# EAGLE library part ADS1260BIRHBR (library ads1260)
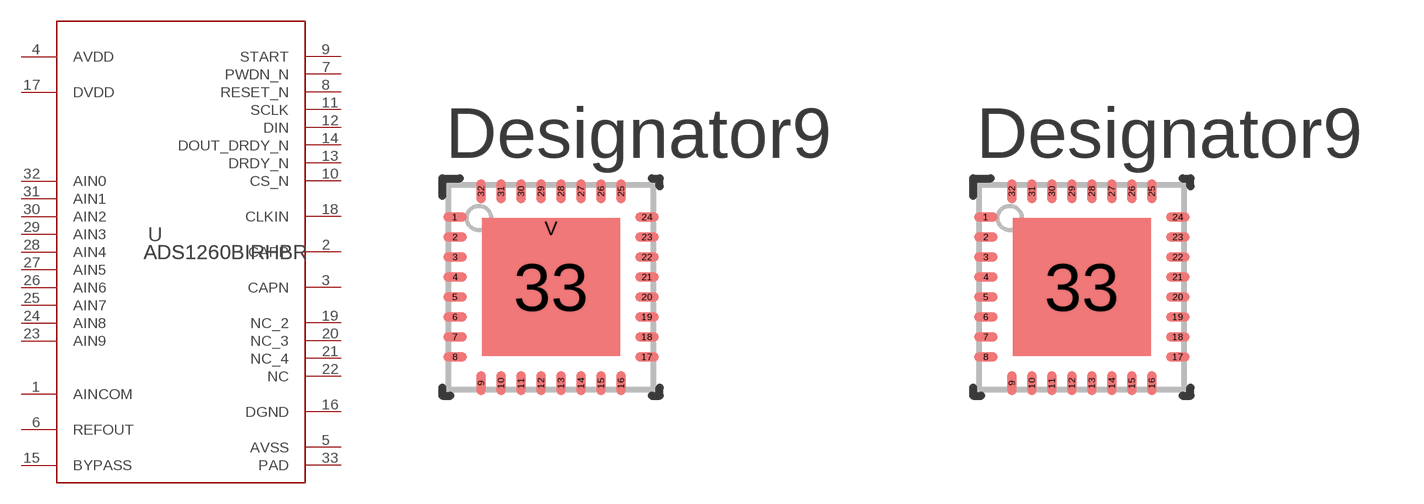
[diagram p0: symbol with the pads of RHB0032E; footprints RHB0032E, RHB0032E_NV]

Designator prefix U

## ADS1260BIRHBR (COPYRIGHT: Copyright (C) 2023 Ultra Librarian. All rights reserved.; MANUFACTURER_PART_NUMBER: ADS1260BIRHBR; MFR_NAME: Texas Instruments; REFDES: RefDes; TYPE: TYPE)  [RHB0032E]
1  AINCOM  in
2  CAPP  pas
3  CAPN  pas
4  AVDD  pwr
5  AVSS  pwr
6  REFOUT  out
7  PWDN_N  in
8  RESET_N  in
9  START  in
10  CS_N  in
11  SCLK  in
12  DIN  in
13  DRDY_N  out
14  DOUT_DRDY_N  out
15  BYPASS  pas
16  DGND  pwr
17  DVDD  pwr
18  CLKIN  in
19  NC_2  pas
20  NC_3  pas
21  NC_4  pas
22  NC  pas
23  AIN9  in
24  AIN8  in
25  AIN7  in
26  AIN6  in
27  AIN5  in
28  AIN4  in
29  AIN3  in
30  AIN2  in
31  AIN1  in
32  AIN0  in
33  PAD  pwr

## ADS1260BIRHBRRHB0032E_NV (COPYRIGHT: Copyright (C) 2023 Ultra Librarian. All rights reserved.; MANUFACTURER_PART_NUMBER: ADS1260BIRHBR; MFR_NAME: Texas Instruments; REFDES: RefDes; TYPE: TYPE)  [RHB0032E_NV]
Pads as for RHB0032E

## Footprint RHB0032E (pad centres in mm)
smd 0.6 x 0.24: 1 -2.4,1.75; 2 -2.4,1.25; 3 -2.4,0.75; 4 -2.4,0.25; 5 -2.4,-0.25; 6 -2.4,-0.75; 7 -2.4,-1.25; 8 -2.4,-1.75; 17 2.4,-1.75; 18 2.4,-1.25; 19 2.4,-0.75; 20 2.4,-0.25; 21 2.4,0.25; 22 2.4,0.75; 23 2.4,1.25; 24 2.4,1.75
smd 0.24 x 0.6: 9 -1.75,-2.4; 10 -1.25,-2.4; 11 -0.75,-2.4; 12 -0.25,-2.4; 13 0.25,-2.4; 14 0.75,-2.4; 15 1.25,-2.4; 16 1.75,-2.4; 25 1.75,2.4; 26 1.25,2.4; 27 0.75,2.4; 28 0.25,2.4; 29 -0.25,2.4; 30 -0.75,2.4; 31 -1.25,2.4; 32 -1.75,2.4
smd 3.45 x 3.45: 33 0,0
smd 0.5 x 0.5: V 0,1.475

## Footprint RHB0032E_NV (pad centres in mm)
smd 0.6 x 0.24: 1 -2.4,1.75; 2 -2.4,1.25; 3 -2.4,0.75; 4 -2.4,0.25; 5 -2.4,-0.25; 6 -2.4,-0.75; 7 -2.4,-1.25; 8 -2.4,-1.75; 17 2.4,-1.75; 18 2.4,-1.25; 19 2.4,-0.75; 20 2.4,-0.25; 21 2.4,0.25; 22 2.4,0.75; 23 2.4,1.25; 24 2.4,1.75
smd 0.24 x 0.6: 9 -1.75,-2.4; 10 -1.25,-2.4; 11 -0.75,-2.4; 12 -0.25,-2.4; 13 0.25,-2.4; 14 0.75,-2.4; 15 1.25,-2.4; 16 1.75,-2.4; 25 1.75,2.4; 26 1.25,2.4; 27 0.75,2.4; 28 0.25,2.4; 29 -0.25,2.4; 30 -0.75,2.4; 31 -1.25,2.4; 32 -1.75,2.4
smd 3.45 x 3.45: 33 0,0